# Altium footprint library npi_2_1000x900x540.PcbLib: 1 footprints
Each footprint in its own frame and in the unit in brackets; x right, y up, seen from the top. Pads: shape width x height; smd on the part's side, far side on the other; paste and mask are expansions set on the pad; w line width, h text height; cw(c..) or ccw(c..) is an arc to the next point about the centre after c.
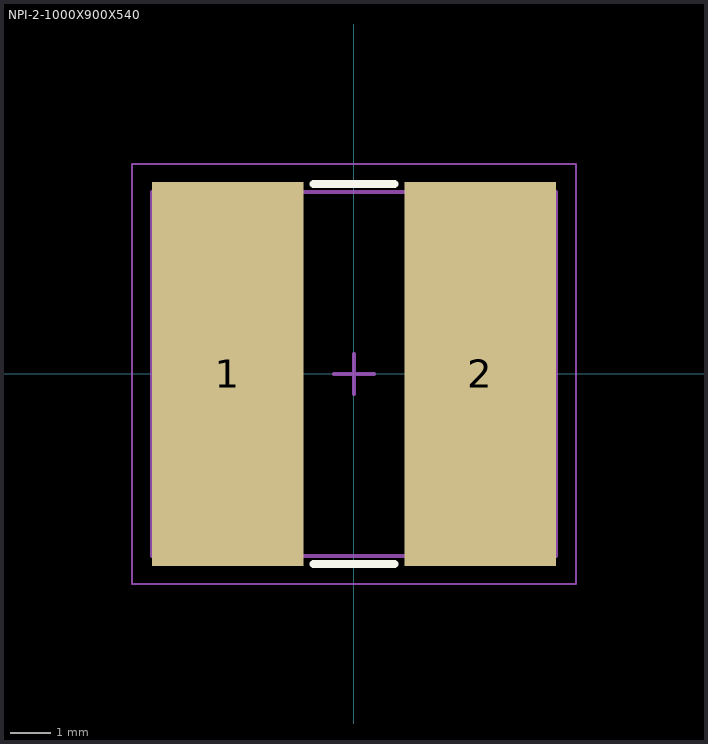
[diagram p0: the footprint, top view; thin cyan lines are the x and y axes]

## NPI-2-1000X900X540 [mm]
height 5.4
pads (2):
  rect 3.75x9.5 smd: 1(-3.125,0) 2(3.125,0)
Top Overlay:
  lines w0.2: -1,-4.7 1,-4.7 ; -1,4.7 1,4.7
Top Comment:
  text ".Comment" at 1,5.5 h1.2
Top Designator:
  text ".Designator" at -0.4,5.5 h1.2
Top Component Outline:
  lines w0.1: -5,-4.5 5,-4.5 5,4.5 -5,4.5 -5,-4.5
Top Courtyard (Mech15):
  lines w0.05: -5.5,-5.2 -5.5,5.2 5.5,5.2 5.5,-5.2 -5.5,-5.2
  lines w0.1: -0.5,0 0.5,0 ; 0,-0.5 0,0.5
3D body: height 5.4, standoff 4.4, extent -1.65,-4.5 5,4.5
3D body: height 5.4, standoff 4.4, extent -5,-4.5 1.65,4.5
3D body: height 4, standoff 0, extent 0,0 0,0
3D body: height 0.1, standoff 0, extent -5,-4.5 -1.65,4.5
3D body: height 0.1, standoff 0, extent 1.65,-4.5 5,4.5
3D body: height 1.4, standoff 0.1, extent -1.65,-4.5 5,4.5
3D body: height 1.4, standoff 0.1, extent -5,-4.5 1.65,4.5
3D body: height 3, standoff 0, extent 0,0 0,0
3D body: height 4.5, standoff 1.3, extent -4.5,-4.5 4.5,4.5